# EAGLE library part TLC5940-PWP (library fletchtronics)
TLC5940-PWP Contains hobbiest-friendly support for the PWP 28-HTSSOP package, 3 large holes where solder can be dripped to connect the sink. Brought out in pads SCREEN1,2,3.
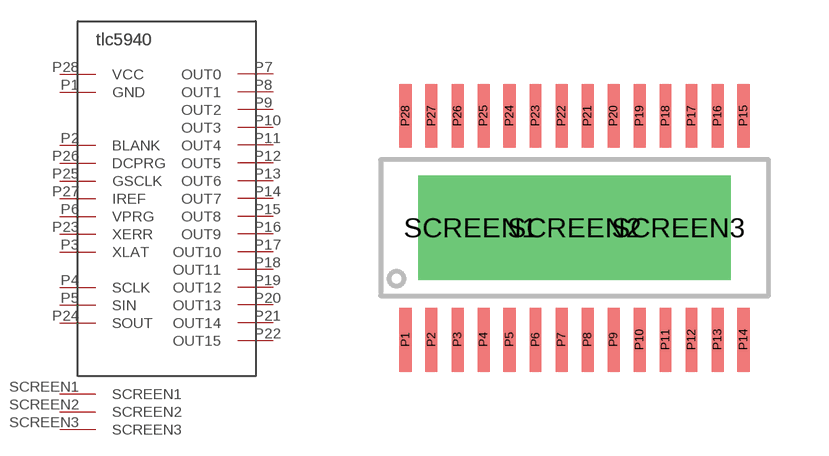
[diagram p0: symbol with the pads of 28-HTSSOP; footprint 28-HTSSOP]

Designator prefix -; gates G$1=TLC5940 G$2=PWP-WINDOW

## TLC5940-PWP  [28-HTSSOP]
P1  G$1:GND
P2  G$1:BLANK
P3  G$1:XLAT
P4  G$1:SCLK
P5  G$1:SIN
P6  G$1:VPRG
P7  G$1:OUT0
P8  G$1:OUT1
P9  G$1:OUT2
P10  G$1:OUT3
P11  G$1:OUT4
P12  G$1:OUT5
P13  G$1:OUT6
P14  G$1:OUT7
P15  G$1:OUT8
P16  G$1:OUT9
P17  G$1:OUT10
P18  G$1:OUT11
P19  G$1:OUT12
P20  G$1:OUT13
P21  G$1:OUT14
P22  G$1:OUT15
P23  G$1:XERR
P24  G$1:SOUT
P25  G$1:GSCLK
P26  G$1:DCPRG
P27  G$1:IREF
P28  G$1:VCC
SCREEN1  G$2:SCREEN1
SCREEN2  G$2:SCREEN2
SCREEN3  G$2:SCREEN3

## Footprint 28-HTSSOP (pad centres in mm)
smd 0.3 x 1.6: P1 -4.225,-2.8; P2 -3.575,-2.8; P3 -2.925,-2.8; P4 -2.275,-2.8; P5 -1.625,-2.8; P6 -0.975,-2.8; P7 -0.325,-2.8; P8 0.325,-2.8; P9 0.975,-2.8; P10 1.625,-2.8; P11 2.275,-2.8; P12 2.925,-2.8; P13 3.575,-2.8; P14 4.225,-2.8; P15 4.225,2.8; P16 3.575,2.8; P17 2.925,2.8; P18 2.275,2.8; P19 1.625,2.8; P20 0.975,2.8; P21 0.325,2.8; P22 -0.325,2.8; P23 -0.975,2.8; P24 -1.625,2.8; P25 -2.275,2.8; P26 -2.925,2.8; P27 -3.575,2.8; P28 -4.225,2.8
drill 1.737 square: SCREEN1 -2.6,0; SCREEN2 0,0; SCREEN3 2.6,0